# EAGLE library part ADAU1328 (library tsunami)
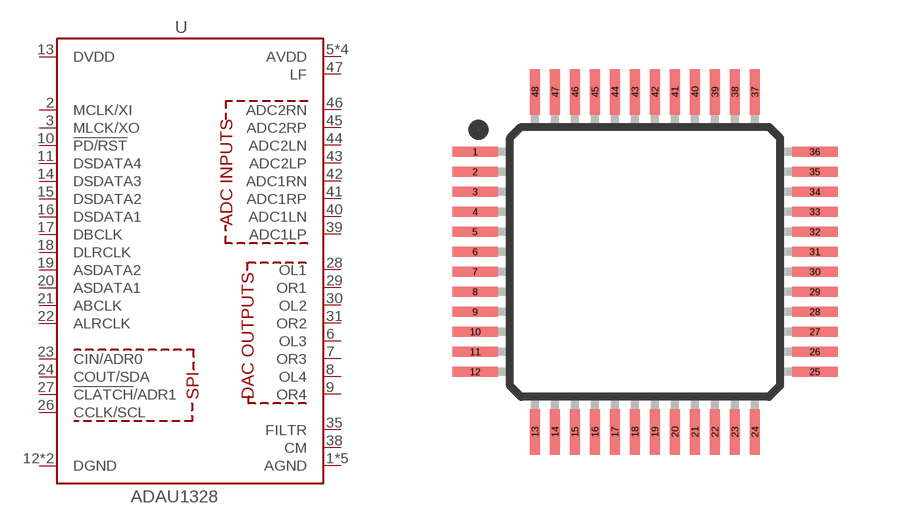
[diagram p0: symbol with the pads of LQFP-48; footprint LQFP-48]

Designator prefix U

## ADAU1328 (PROD_ID: IC-16007)  [LQFP-48]
1  AGND
2  MCLK/XI
3  MLCK/XO
4  AGND
5  AVDD
6  OL3
7  OR3
8  OL4
9  OR4
10  !PD/RST!
11  DSDATA4
12  DGND
13  DVDD
14  DSDATA3
15  DSDATA2
16  DSDATA1
17  DBCLK
18  DLRCLK
19  ASDATA2
20  ASDATA1
21  ABCLK
22  ALRCLK
23  CIN/ADR0
24  COUT/SDA
25  DGND
26  CCLK/SCL
27  !CLATCH!/ADR1
28  OL1
29  OR1
30  OL2
31  OR2
32  AGND
33  AVDD
34  AGND
35  FILTR
36  AGND
37  AVDD
38  CM
39  ADC1LP
40  ADC1LN
41  ADC1RP
42  ADC1RN
43  ADC2LP
44  ADC2LN
45  ADC2RP
46  ADC2RN
47  LF
48  AVDD

## Footprint LQFP-48 (pad centres in mm)
smd 1.143 x 0.254: 1 -4.25,2.75; 2 -4.25,2.25; 3 -4.25,1.75; 4 -4.25,1.25; 5 -4.25,0.75; 6 -4.25,0.25; 7 -4.25,-0.25; 8 -4.25,-0.75; 9 -4.25,-1.25; 10 -4.25,-1.75; 11 -4.25,-2.25; 12 -4.25,-2.75; 25 4.25,-2.75; 26 4.25,-2.25; 27 4.25,-1.75; 28 4.25,-1.25; 29 4.25,-0.75; 30 4.25,-0.25; 31 4.25,0.25; 32 4.25,0.75; 33 4.25,1.25; 34 4.25,1.75; 35 4.25,2.25; 36 4.25,2.75
smd 0.254 x 1.143: 13 -2.75,-4.25; 14 -2.25,-4.25; 15 -1.75,-4.25; 16 -1.25,-4.25; 17 -0.75,-4.25; 18 -0.25,-4.25; 19 0.25,-4.25; 20 0.75,-4.25; 21 1.25,-4.25; 22 1.75,-4.25; 23 2.25,-4.25; 24 2.75,-4.25; 37 2.75,4.25; 38 2.25,4.25; 39 1.75,4.25; 40 1.25,4.25; 41 0.75,4.25; 42 0.25,4.25; 43 -0.25,4.25; 44 -0.75,4.25; 45 -1.25,4.25; 46 -1.75,4.25; 47 -2.25,4.25; 48 -2.75,4.25